# EAGLE library part EA_DOGL128-6 (library untitled)
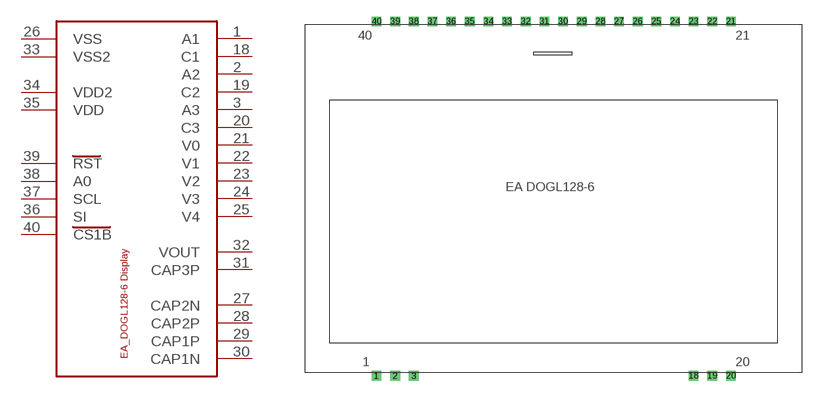
[diagram p0: symbol with the pads of EA_DOGL128-6; footprint EA_DOGL128-6]

Designator prefix -

## EA_DOGL128-6  [EA_DOGL128-6]
1  A1
2  A2
3  A3
18  C1
19  C2
20  C3
21  V0  pwr
22  V1  pwr
23  V2
24  V3
25  V4
26  VSS
27  CAP2N
28  CAP2P
29  CAP1P
30  CAP1N
31  CAP3P
32  VOUT
33  VSS2
34  VDD2
35  VDD
36  SI
37  SCL
38  A0
39  RST
40  CS1B

## Footprint EA_DOGL128-6 (pad centres in mm)
EA DOGL128-6 Grafikdisplay COG 128x64 Pixel inkl.Kontroller Hersteller: ELECTRONIC ASSEMBLY GmbH http://www.lcd-module.de
drill 0.813 square: 1 0,0; 2 2.54,0; 3 5.08,0; 18 43.18,0; 19 45.72,0; 20 48.26,0; 21 48.26,48.26; 22 45.72,48.26; 23 43.18,48.26; 24 40.64,48.26; 25 38.1,48.26; 26 35.56,48.26; 27 33.02,48.26; 28 30.48,48.26; 29 27.94,48.26; 30 25.4,48.26; 31 22.86,48.26; 32 20.32,48.26; 33 17.78,48.26; 34 15.24,48.26; 35 12.7,48.26; 36 10.16,48.26; 37 7.62,48.26; 38 5.08,48.26; 39 2.54,48.26; 40 0,48.26